# Altium footprint library BCR.PcbLib: 14 footprints
Each footprint in its own frame and in the unit in brackets; x right, y up, seen from the top. Pads: shape width x height; smd on the part's side, far side on the other; paste and mask are expansions set on the pad; w line width, h text height; cw(c..) or ccw(c..) is an arc to the next point about the centre after c.
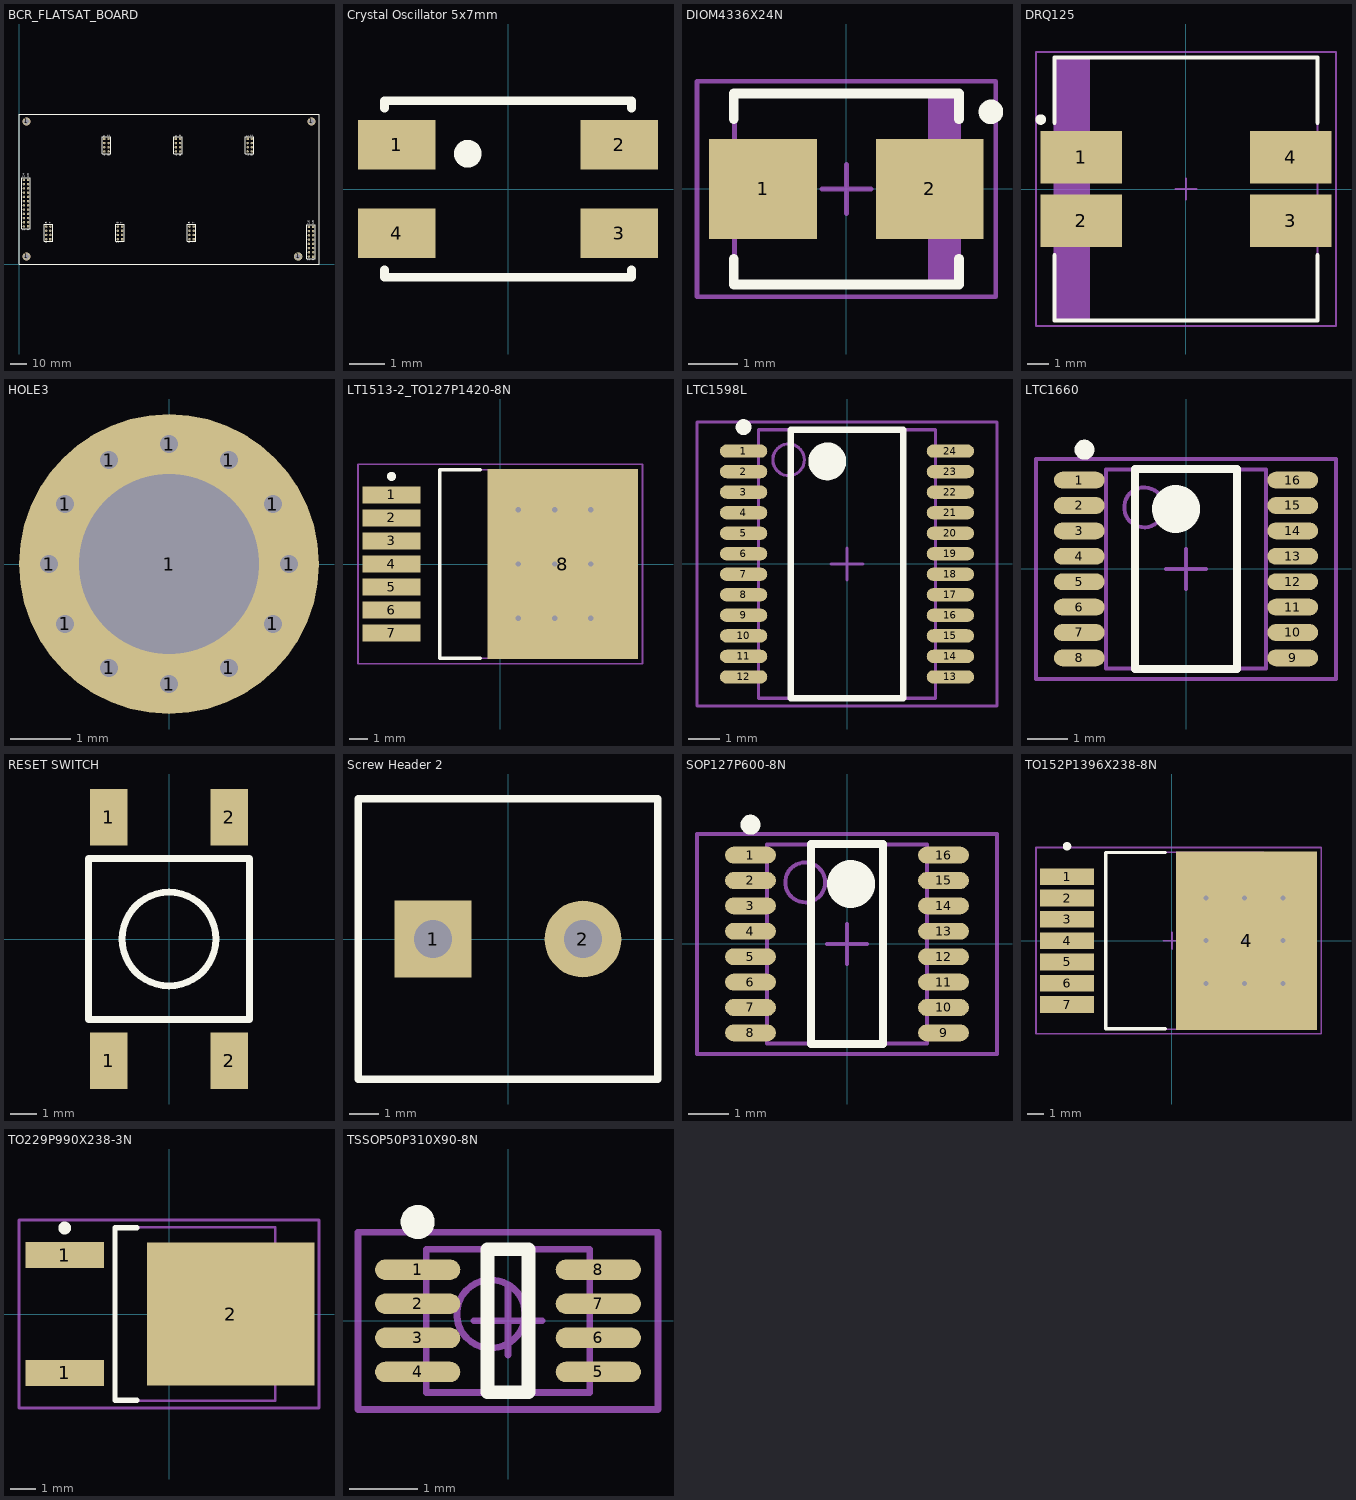
[diagram p0: the footprints below, top view; thin cyan lines are the x and y axes]

## BCR_FLATSAT_BOARD [mm]
pads (140):
  round 1 hole 0.3: 1(2.5,4.5) 1(2.5,85.5) 1(2.768,3.5) 1(2.768,5.5) 1(2.768,84.5) 1(2.768,86.5) 1(3.5,2.768) 1(3.5,6.232) 1(3.5,83.768) 1(3.5,87.232) 1(4.5,2.5) 1(4.5,6.5) 1(4.5,83.5) 1(4.5,87.5) 1(5.5,2.768) 1(5.5,6.232) 1(5.5,83.768) 1(5.5,87.232) 1(6.232,3.5) 1(6.232,5.5) 1(6.232,84.5) 1(6.232,86.5) 1(6.5,4.5) 1(6.5,85.5) 1(165.5,4.5) 1(165.768,3.5) 1(165.768,5.5) 1(166.5,2.768) 1(166.5,6.232) 1(167.5,2.5) 1(167.5,6.5) 1(168.5,2.768) 1(168.5,6.232) 1(169.232,3.5) 1(169.232,5.5) 1(169.5,4.5) 1(173.5,85.5) 1(173.768,84.5) 1(173.768,86.5) 1(174.5,83.768) 1(174.5,87.232) 1(175.5,83.5) 1(175.5,87.5) 1(176.5,83.768) 1(176.5,87.232) 1(177.232,84.5) 1(177.232,86.5) 1(177.5,85.5)
  round 5 hole 3: 1(4.5,4.5) 1(4.5,85.5) 1(167.5,4.5) 1(175.5,85.5)
  rect 1.5x1.5 hole 0.9: 1(5.5,22.5) 1(18.834,14.867) 1(51.166,75.133) 1(61.834,14.867) 1(94.166,75.133) 1(104.834,14.867) 1(137.166,75.133) 1(176.5,4.5)
  round 1.5 hole 0.9: 2(2.96,22.5) 2(16.294,14.867) 2(53.706,75.133) 2(59.294,14.867) 2(96.706,75.133) 2(102.294,14.867) 2(139.706,75.133) 2(173.96,4.5) 3(5.5,25.04) 3(18.834,17.407) 3(51.166,72.593) 3(61.834,17.407) 3(94.166,72.593) 3(104.834,17.407) 3(137.166,72.593) 3(176.5,7.04) 4(2.96,25.04) 4(16.294,17.407) 4(53.706,72.593) 4(59.294,17.407) 4(96.706,72.593) 4(102.294,17.407) 4(139.706,72.593) 4(173.96,7.04) 5(5.5,27.58) 5(18.834,19.947) 5(51.166,70.053) 5(61.834,19.947) 5(94.166,70.053) 5(104.834,19.947) 5(137.166,70.053) 5(176.5,9.58) 6(2.96,27.58) 6(16.294,19.947) 6(53.706,70.053) 6(59.294,19.947) 6(96.706,70.053) 6(102.294,19.947) 6(139.706,70.053) 6(173.96,9.58) 7(5.5,30.12) 7(18.834,22.487) 7(51.166,67.513) 7(61.834,22.487) 7(94.166,67.513) 7(104.834,22.487) 7(137.166,67.513) 7(176.5,12.12) 8(2.96,30.12) 8(16.294,22.487) 8(53.706,67.513) 8(59.294,22.487) 8(96.706,67.513) 8(102.294,22.487) 8(139.706,67.513) 8(173.96,12.12) 9(5.5,32.66) 9(176.5,14.66) 10(2.96,32.66) 10(173.96,14.66) 11(5.5,35.2) 11(176.5,17.2) 12(2.96,35.2) 12(173.96,17.2) 13(5.5,37.74) 13(176.5,19.74) 14(2.96,37.74) 14(173.96,19.74) 15(5.5,40.28) 15(176.5,22.28) 16(2.96,40.28) 16(173.96,22.28) 17(5.5,42.82) 18(2.96,42.82) 19(5.5,45.36) 20(2.96,45.36) 21(5.5,47.9) 22(2.96,47.9) 23(5.5,50.44) 24(2.96,50.44)
Top Overlay:
  lines w0.2: 1.69,21.23 1.69,51.71 6.77,51.71 6.77,21.23 1.69,21.23 ; 15.024,13.597 20.104,13.597 20.104,23.757 15.024,23.757 15.024,13.597 ; 49.896,66.243 54.976,66.243 54.976,76.403 49.896,76.403 49.896,66.243 ; 58.024,13.597 63.104,13.597 63.104,23.757 58.024,23.757 58.024,13.597 ; 92.896,66.243 97.976,66.243 97.976,76.403 92.896,76.403 92.896,66.243 ; 101.024,13.597 106.104,13.597 106.104,23.757 101.024,23.757 101.024,13.597 ; 135.896,66.243 140.976,66.243 140.976,76.403 135.896,76.403 135.896,66.243 ; 172.69,3.23 172.69,23.55 177.77,23.55 177.77,3.23 172.69,3.23
  lines w0.254: 0,0 180,0 180,90 0,90 0,0
  text "24" at 3.468,51.964 h1.27
  text "23" at 6.008,51.964 h1.27
  text "2" at 3.468,19.96 h1.27
  text "1" at 6.008,19.96 h1.27
  text "16" at 174.468,23.804 h1.27
  text "15" at 177.008,23.804 h1.27
  text "1" at 177.008,1.96 h1.27
  text "2" at 174.468,1.96 h1.27
  text "8" at 139.198,65.989 h1.27
  text "7" at 136.658,65.989 h1.27
  text "1" at 136.658,77.165 h1.27
  text "2" at 139.198,77.673 h1.27
  text "8" at 16.802,24.011 h1.27
  text "7" at 19.342,24.011 h1.27
  text "1" at 19.342,12.835 h1.27
  text "2" at 16.802,12.327 h1.27
  text "8" at 53.198,65.989 h1.27
  text "7" at 50.658,65.989 h1.27
  text "1" at 50.658,77.165 h1.27
  text "2" at 53.198,77.673 h1.27
  text "8" at 102.802,24.011 h1.27
  text "7" at 105.342,24.011 h1.27
  text "1" at 105.342,12.835 h1.27
  text "2" at 102.802,12.327 h1.27
  text "8" at 96.198,65.989 h1.27
  text "7" at 93.658,65.989 h1.27
  text "1" at 93.658,77.165 h1.27
  text "2" at 96.198,77.673 h1.27
  text "8" at 59.802,24.011 h1.27
  text "7" at 62.342,24.011 h1.27
  text "1" at 62.342,12.835 h1.27
  text "2" at 59.802,12.327 h1.27

## Crystal Oscillator 5x7mm [mm]
height 2
pads (4):
  rect 2.2x1.4 smd: 1(-3.15,1.25) 2(3.15,1.25) 3(3.15,-1.25) 4(-3.15,-1.25)
Top Overlay:
  circle w0.5: c-1.141,1 r0.141
  lines w0.254: -3.5,-2.3 -3.5,-2.5 3.5,-2.5 3.5,-2.3 ; -3.5,2.3 -3.5,2.5 3.5,2.5 3.5,2.3
3D body: height 1.2, standoff 0, extent -3.5,-2.5 3.5,2.505

## DIOM4336X24N [mm] "Molded Diode, 2-Leads, Body 4.3x3.6mm, IPC Medium Density"
height 2.41
pads (2):
  rect 2.2x2.05 smd: 1(-1.7,0) 2(1.7,0)
Top Overlay:
  circle w0.25: c2.95,1.575 r0.125
  lines w0.2: -2.3,-1.425 -2.3,-1.95 2.3,-1.95 2.3,-1.425 ; -2.3,1.425 -2.3,1.95 2.3,1.95 2.3,1.425
Mechanical 13:
  rectangle: 1.67,-1.905 2.285,1.905
  lines w0.1: -2.285,-1.905 2.285,-1.905 2.285,1.905 -2.285,1.905 -2.285,-1.905
Mechanical 15:
  lines w0.1: -0.5,0 0.5,0 ; 0,-0.5 0,0.5 ; -3.05,-2.2 3.05,-2.2 3.05,2.2 -3.05,2.2 -3.05,-2.2
3D body: height 2.41, standoff 0, extent -2.285,-1.905 2.285,1.905

## DRQ125 [mm]
height 6
pads (4):
  rect 3.85x2.5 smd: 1(-4.975,1.5) 2(-4.975,-1.5) 3(4.975,-1.5) 4(4.975,1.5)
Top Overlay:
  circle w0.25: c-6.9,3.3 r0.125
  lines w0.2: -6.25,-3.15 -6.25,-6.25 6.25,-6.25 6.25,-3.15 ; -6.25,3.15 -6.25,6.25 6.25,6.25 6.25,3.15
Mechanical 13:
  rectangle: -6.25,-6.25 -4.569,6.25
  lines w0.1: -6.25,-6.25 -6.25,6.25 6.25,6.25 6.25,-6.25 -6.25,-6.25
Mechanical 15:
  lines w0.1: -0.5,0 0.5,0 ; 0,-0.5 0,0.5 ; -7.125,-6.5 -7.125,6.5 7.125,6.5 7.125,-6.5 -7.125,-6.5
3D body: height 6, standoff 0, extent -6.25,-6.25 6.25,6.25

## HOLE3 [mm]
pads (13):
  round 1 hole 0.3: 1(-2,0) 1(-1.732,-1) 1(-1.732,1) 1(-1,-1.732) 1(-1,1.732) 1(0,-2) 1(0,2) 1(1,-1.732) 1(1,1.732) 1(1.732,-1) 1(1.732,1) 1(2,0)
  round 5 hole 3: 1(0,0)

## LT1513-2_TO127P1420-8N [mm] "D2-PAK, 8-Leads, Body 8.9x10.1mm, Pitch 1.27mm, Lead Span 14.2mm, IPC Medium Density"
height 4.65
pads (8):
  rect 3.2x0.95 smd: 1(-6,3.81) 2(-6,2.54) 3(-6,1.27) 4(-6,0) 5(-6,-1.27) 6(-6,-2.54) 7(-6,-3.81)
  rect 8.3x10.5 smd: 8(3.45,0)
via 1,-3 diameter 0.5 hole 0.3
via 3,-3 diameter 0.5 hole 0.3
via 5,-3 diameter 0.5 hole 0.3
via 1,0 diameter 0.5 hole 0.3
via 3,0 diameter 0.5 hole 0.3
via 5,0 diameter 0.5 hole 0.3
via 1,3 diameter 0.5 hole 0.3
via 3,3 diameter 0.5 hole 0.3
via 5,3 diameter 0.5 hole 0.3
Top Overlay:
  circle w0.25: c-6,4.835 r0.125
  lines w0.2: -1.1,-5.2 -3.35,-5.2 -3.35,5.2 -1.1,5.2
Mechanical 13:
  lines w0.1: -3.35,-5.2 6.05,-5.2 6.05,5.2 -3.35,5.2 -3.35,-5.2
Mechanical 15:
  lines w0.1: -0.5,0 0.5,0 ; 0,-0.5 0,0.5 ; -7.85,-5.5 7.85,-5.5 7.85,5.5 -7.85,5.5 -7.85,-5.5
3D body: height 4.65, standoff 0, extent -3.35,-5.2 6.05,5.2

## LTC1598L [mm]
height 2
pads (24):
  oval 1.5x0.42 smd: 1(-3.275,3.575) 2(-3.275,2.925) 3(-3.275,2.275) 4(-3.275,1.625) 5(-3.275,0.975) 6(-3.275,0.325) 7(-3.275,-0.325) 8(-3.275,-0.975) 9(-3.275,-1.625) 10(-3.275,-2.275) 11(-3.275,-2.925) 12(-3.275,-3.575) 13(3.275,-3.575) 14(3.275,-2.925) 15(3.275,-2.275) 16(3.275,-1.625) 17(3.275,-0.975) 18(3.275,-0.325) 19(3.275,0.325) 20(3.275,0.975) 21(3.275,1.625) 22(3.275,2.275) 23(3.275,2.925) 24(3.275,3.575)
Top Overlay:
  circle w0.25: c-3.275,4.335 r0.125
  circle w0.6: c-0.625,3.25 r0.3
  lines w0.2: -1.778,-4.25 -1.778,4.25 1.778,4.25 1.778,-4.25 -1.778,-4.25
Mechanical 13:
  circle w0.1: c-1.85,3.3 r0.5
  lines w0.1: -2.8,-4.25 -2.8,4.25 2.8,4.25 2.8,-4.25 -2.8,-4.25
Mechanical 15:
  lines w0.1: -0.5,0 0.5,0 ; 0,-0.5 0,0.5 ; -4.75,-4.5 -4.75,4.5 4.75,4.5 4.75,-4.5 -4.75,-4.5
3D body: height 2, standoff 0.25, extent -2.8,-4.25 2.8,4.25

## LTC1660 [mil]
height 68.9
pads (16):
  oval 50x16.5 smd: 1(-105,87.5) 2(-105,62.5) 3(-105,37.5) 4(-105,12.5) 5(-105,-12.5) 6(-105,-37.5) 7(-105,-62.5) 8(-105,-87.5) 9(105,-87.5) 10(105,-62.5) 11(105,-37.5) 12(105,-12.5) 13(105,12.5) 14(105,37.5) 15(105,62.5) 16(105,87.5)
Top Overlay:
  circle w9.84: c-100,117.4 r4.92
  circle w23.62: c-9.84,59.06 r11.81
  lines w7.87: -50,-98.43 -50,98.43 50,98.43 50,-98.43 -50,-98.43
Mechanical 13:
  circle w3.94: c-41.14,60.63 r19.68
  lines w3.94: -78.54,-98.03 -78.54,98.03 78.54,98.03 78.54,-98.03 -78.54,-98.03
Mechanical 15:
  lines w3.94: -19.68,0 19.68,0 ; 0,-19.68 0,19.68 ; -147.64,-108.27 -147.64,108.27 147.64,108.27 147.64,-108.27 -147.64,-108.27
3D body: height 68.9, standoff 9.84, extent -78.54,-98.03 78.54,98.03

## RESET SWITCH [mm]
pads (4):
  rect 1.4x2.1 smd: 1(-2.25,-4.55) 1(-2.25,4.55) 2(2.25,-4.55) 2(2.25,4.55)
Top Overlay:
  circle w0.254: c0,0 r1.75
  lines w0.254: -3,-3 3,-3 3,3 -3,3 -3,-3

## Screw Header 2 [mm] "2 pin PCB screw header, 5.08 mm pin spacing"
height 15
pads (2):
  rect 2.6x2.6 hole 1.3: 1(-2.54,0)
  round 2.6 hole 1.3: 2(2.54,0)
Top Overlay:
  lines w0.254: -5.08,-4.75 5.08,-4.75 5.08,4.75 -5.08,4.75 -5.08,-4.75

## SOP127P600-8N [mil]
height 68.9
pads (16):
  oval 50x16.5 smd: 1(-95,87.5) 2(-95,62.5) 3(-95,37.5) 4(-95,12.5) 5(-95,-12.5) 6(-95,-37.5) 7(-95,-62.5) 8(-95,-87.5) 9(95,-87.5) 10(95,-62.5) 11(95,-37.5) 12(95,-12.5) 13(95,12.5) 14(95,37.5) 15(95,62.5) 16(95,87.5)
Top Overlay:
  circle w23.62: c3.94,59.06 r11.81
  circle w9.84: c-95,117.4 r4.92
  lines w7.87: -35.43,-98.43 35.43,-98.43 35.43,98.43 -35.43,98.43 -35.43,-98.43
Mechanical 13:
  circle w3.94: c-41.14,60.63 r19.68
  lines w3.94: -78.54,-98.03 78.54,-98.03 78.54,98.03 -78.54,98.03 -78.54,-98.03
Mechanical 15:
  lines w3.94: -19.68,0 19.68,0 ; 0,-19.68 0,19.68 ; -147.64,-108.27 147.64,-108.27 147.64,108.27 -147.64,108.27 -147.64,-108.27
3D body: height 68.9, standoff 9.84, extent -78.54,-98.03 78.54,98.03

## TO152P1396X238-8N [mm] "D2-PAK, 8-Pads, Body 9.4x10.5mm (max), IPC Medium Density"
height 2.38
pads (8):
  rect 3.2x1 smd: 1(-6.25,3.81) 2(-6.25,2.54) 3(-6.25,1.27) 4(-6.25,0) 5(-6.25,-1.27) 6(-6.25,-2.54) 7(-6.25,-3.81)
  rect 8.382x10.65 smd: 4(4.445,0)
via 2.032,-2.54 diameter 0.5 hole 0.3
via 2.032,0 diameter 0.5 hole 0.3
via 2.032,2.54 diameter 0.5 hole 0.3
via 6.604,2.54 diameter 0.5 hole 0.3
via 6.604,0 diameter 0.5 hole 0.3
via 6.604,-2.54 diameter 0.5 hole 0.3
via 4.318,-2.54 diameter 0.5 hole 0.3
via 4.318,2.54 diameter 0.5 hole 0.3
via 4.318,0 diameter 0.5 hole 0.3
Top Overlay:
  circle w0.25: c-6.25,5.622 r0.125
  lines w0.2: -0.4,-5.25 -3.95,-5.25 -3.95,5.25 -0.4,5.25
Mechanical 13:
  lines w0.1: -3.95,-5.275 5.45,-5.275 5.45,5.275 -3.95,5.275 -3.95,-5.275
Mechanical 15:
  lines w0.1: -0.5,0 0.5,0 ; 0,-0.5 0,0.5 ; -8.1,-5.55 8.89,-5.55 8.89,5.55 -8.1,5.55 -8.1,-5.55
3D body: height 2.38, standoff 0, extent -3.95,-5.275 5.45,5.275

## TO229P990X238-3N [mm] "D-PAK, 3-Pads, Body 6.2x6.7mm (max), IPC Medium Density"
height 2.38
pads (3):
  rect 3.05x1 smd: 1(-4.05,-2.29) 1(-4.05,2.29)
  rect 6.5x5.55 smd: 2(2.4,0)
Top Overlay:
  circle w0.25: c-4.05,3.34 r0.125
  lines w0.2: -1.25,-3.35 -2.1,-3.35 -2.1,3.35 -1.25,3.35
Mechanical 13:
  lines w0.1: -2.1,-3.375 4.12,-3.375 4.12,3.375 -2.1,3.375 -2.1,-3.375
Mechanical 15:
  lines w0.1: -0.5,0 0.5,0 ; 0,-0.5 0,0.5 ; -5.825,-3.65 5.825,-3.65 5.825,3.65 -5.825,3.65 -5.825,-3.65
3D body: height 2.38, standoff 0, extent -2.1,-3.375 4.12,3.375

## TSSOP50P310X90-8N [mm] "TSSOP, 8-Leads, Body 2.1x2.4mm (max), Pitch 0.50mm, IPC Medium Density"
height 0.9
pads (8):
  oval 1.25x0.3 smd: 1(-1.325,0.75) 2(-1.325,0.25) 3(-1.325,-0.25) 4(-1.325,-0.75) 5(1.325,-0.75) 6(1.325,-0.25) 7(1.325,0.25) 8(1.325,0.75)
Top Overlay:
  circle w0.25: c-1.325,1.45 r0.125
  lines w0.2: -0.3,-1.05 0.3,-1.05 0.3,1.05 -0.3,1.05 -0.3,-1.05
Mechanical 13:
  circle w0.1: c-0.25,0.1 r0.5
  lines w0.1: -1.2,-1.05 1.2,-1.05 1.2,1.05 -1.2,1.05 -1.2,-1.05
Mechanical 15:
  lines w0.1: -0.5,0 0.5,0 ; 0,-0.5 0,0.5 ; -2.2,-1.3 2.2,-1.3 2.2,1.3 -2.2,1.3 -2.2,-1.3
3D body: height 0.9, standoff 0.12, extent -1.2,-1.05 1.2,1.05